# EAGLE library part BL600 (library mbed-HDK-MF-LAIRD)
BLE Single Mode Bluetooth v4.0 Module w/ SmartBASIC (Integrated Ant.)
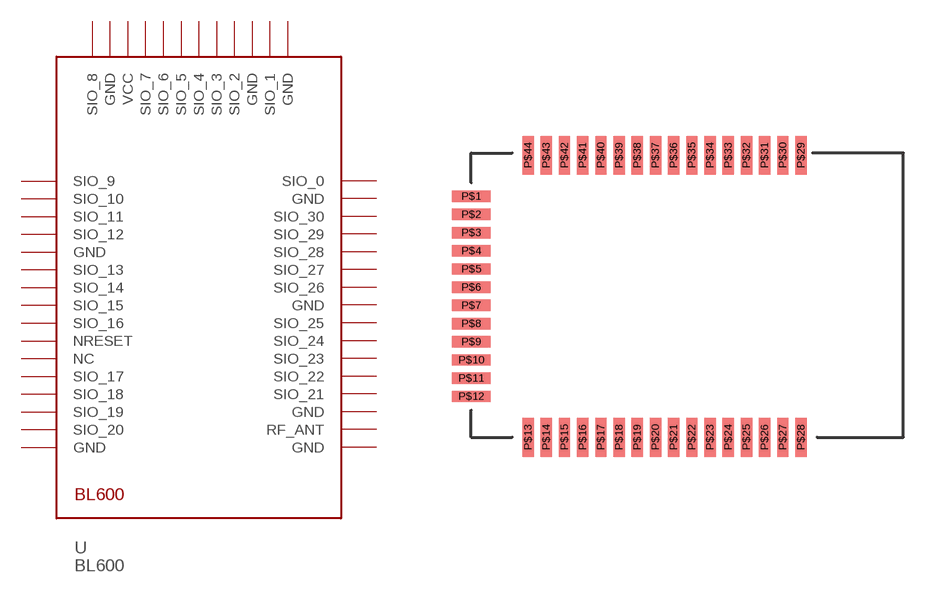
[diagram p0: symbol with the pads of BL600; footprint BL600]

Designator prefix U

## BL600-SA (MF: Laird; MFN: BL600-SA; OC-DIGIKEY: BL600-SA-ND; OC-MOUSER: 239-BL600-SA; OC-NEWARK: 2321469)  [BL600]
P$1  GND
P$2  SIO_1
P$3  GND
P$4  SIO_2
P$5  SIO_3
P$6  SIO_4
P$7  SIO_5
P$8  SIO_6
P$9  SIO_7
P$10  VCC
P$11  GND
P$12  SIO_8
P$13  SIO_9
P$14  SIO_10
P$15  SIO_11
P$16  SIO_12
P$17  GND
P$18  SIO_13
P$19  SIO_14
P$20  SIO_15
P$21  SIO_16
P$22  NRESET
P$23  NC
P$24  SIO_17
P$25  SIO_18
P$26  SIO_19
P$27  SIO_20
P$28  GND
P$29  GND
P$30  RF_ANT
P$31  GND
P$32  SIO_21
P$33  SIO_22
P$34  SIO_23
P$35  SIO_24
P$36  SIO_25
P$37  GND
P$38  SIO_26
P$39  SIO_27
P$40  SIO_28
P$41  SIO_29
P$42  SIO_30
P$43  GND
P$44  SIO_0

## Footprint BL600 (pad centres in mm)
smd 1.7 x 0.5: P$1 0,10.6; P$2 0,9.8; P$3 0,9; P$4 0,8.2; P$5 0,7.4; P$6 0,6.6; P$7 0,5.8; P$8 0,5; P$9 0,4.2; P$10 0,3.4; P$11 0,2.6; P$12 0,1.8
smd 0.5 x 1.7: P$13 2.5,0; P$14 3.3,0; P$15 4.1,0; P$16 4.9,0; P$17 5.7,0; P$18 6.5,0; P$19 7.3,0; P$20 8.1,0; P$21 8.9,0; P$22 9.7,0; P$23 10.5,0; P$24 11.3,0; P$25 12.1,0; P$26 12.9,0; P$27 13.7,0; P$28 14.5,0; P$29 14.5,12.4; P$30 13.7,12.4; P$31 12.9,12.4; P$32 12.1,12.4; P$33 11.3,12.4; P$34 10.5,12.4; P$35 9.7,12.4; P$36 8.9,12.4; P$37 8.1,12.4; P$38 7.3,12.4; P$39 6.5,12.4; P$40 5.7,12.4; P$41 4.9,12.4; P$42 4.1,12.4; P$43 3.3,12.4; P$44 2.5,12.4